# Altium schematic symbol library XT60-M.SchLib: 1 symbol
Pins are listed as number, name and electrical type; pins without a type are passive.

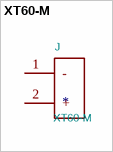
[diagram p0: symbol XT60-M]

## XT60-M
designator J  value XT60-M
Parameter_4: None; Parameter_6: Unavailable; Parameter_7: AMASS; Footprint: AMASS_XT60-M; Supplier: Package Analog Devices; Parameter_5: XT60-M
footprint AMASS_XT60-M
pins: 1 -, 2 +